# EAGLE library part GPS_ORG1411 (library CDC Library v117)
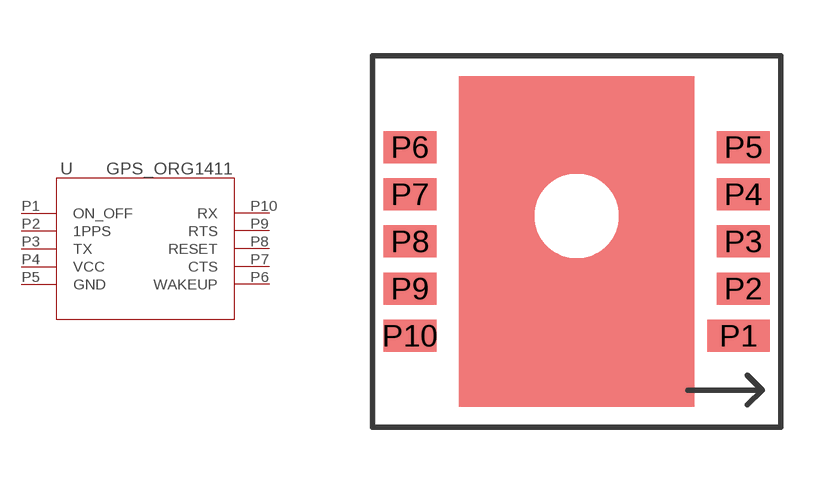
[diagram p7: symbol with the pads of ORG1411; footprint ORG1411]

Designator prefix -

## GPS_ORG1411  [ORG1411]
P1  ON_OFF  in
P2  1PPS  out
P3  TX
P4  VCC  pwr
P5  GND  pwr
P6  WAKEUP  out
P7  CTS
P8  RESET  in
P9  RTS
P10  RX

## Footprint ORG1411 (pad centres in mm)
smd 1.676 x 0.864: P1 4.362,-2.54
smd 1.422 x 0.864: P2 4.489,-1.27; P3 4.489,0; P4 4.489,1.27; P5 4.489,2.54; P6 -4.489,2.54; P7 -4.489,1.27; P8 -4.489,0; P9 -4.489,-1.27; P10 -4.489,-2.54